# Altium footprint library MECH_MOUNTING_HOLE.PcbLib: 32 footprints (part 1 of 2)
Each footprint in its own frame and in the unit in brackets; x right, y up, seen from the top. Pads: shape width x height; smd on the part's side, far side on the other; paste and mask are expansions set on the pad; w line width, h text height; cw(c..) or ccw(c..) is an arc to the next point about the centre after c.
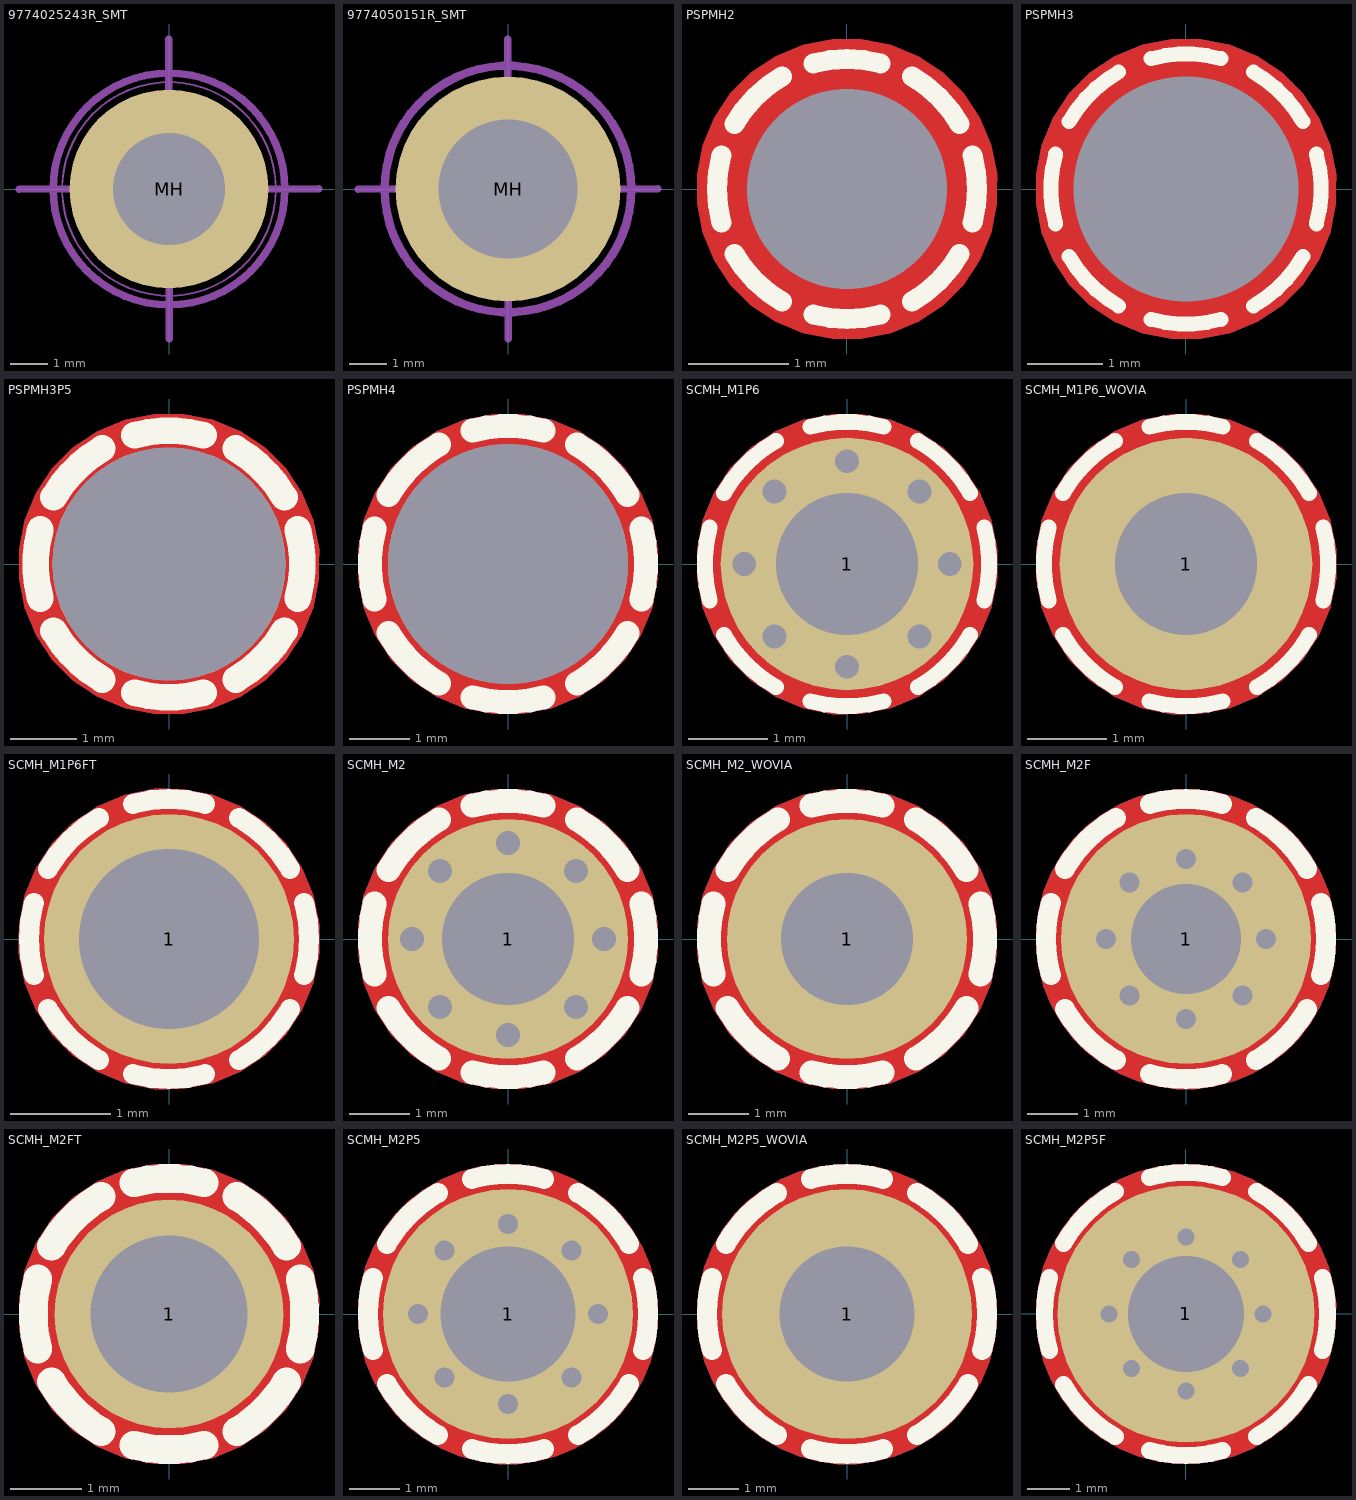
[diagram p0: the footprints below, top view; thin cyan lines are the x and y axes]

## 9774025243R_SMT [mm]
pads (1):
  round 5.3 / inner round 0 / far side round 0 hole 3 unplated: MH(0,0)
Top Paste:
  region: -2.542,0.3 -2.517,0.513 -2.397,0.924 -2.21,1.31 -1.962,1.659 -1.659,1.962 -1.31,2.21 -0.924,2.397 -0.513,2.517 -0.3,2.542 -0.3,1.521 -0.411,1.494 -0.627,1.418 -0.829,1.31 -1.012,1.174 -1.174,1.012 -1.31,0.829 -1.418,0.627 -1.494,0.411 -1.521,0.3
  region: -0.3,-2.542 -0.513,-2.517 -0.924,-2.397 -1.31,-2.21 -1.659,-1.962 -1.962,-1.659 -2.21,-1.31 -2.397,-0.924 -2.517,-0.513 -2.542,-0.3 -1.521,-0.3 -1.494,-0.411 -1.418,-0.627 -1.31,-0.829 -1.174,-1.012 -1.012,-1.174 -0.829,-1.31 -0.627,-1.418 -0.411,-1.494 -0.3,-1.521
  region: 2.542,-0.3 2.517,-0.513 2.397,-0.924 2.21,-1.31 1.962,-1.659 1.659,-1.962 1.31,-2.21 0.924,-2.397 0.513,-2.517 0.3,-2.542 0.3,-1.521 0.411,-1.494 0.627,-1.418 0.829,-1.31 1.012,-1.174 1.174,-1.012 1.31,-0.829 1.418,-0.627 1.494,-0.411 1.521,-0.3
  region: 0.3,2.542 0.513,2.517 0.924,2.397 1.31,2.21 1.659,1.962 1.962,1.659 2.21,1.31 2.397,0.924 2.517,0.513 2.542,0.3 1.521,0.3 1.494,0.411 1.418,0.627 1.31,0.829 1.174,1.012 1.012,1.174 0.829,1.31 0.627,1.418 0.411,1.494 0.3,1.521
Top Courtyard:
  circle w0.05: c0,0 r2.85
  lines w0.05: -0.5,0 0.5,0 ; 0,-0.5 0,0.5
Top 3D Body:
  circle w0.1: c0,0 r2.175
Top Assembly:
  circle w0.2: c0,0 r3.091
  lines w0.2: -4,0 4,0 ; 0,-4 0,4
Top Component Outline:
  circle w0.1: c0,0 r2.175
3D body "9774025243.stp": height 2.5, standoff -1.4, extent -2.175,-2.163 2.175,2.163

## 9774050151R_SMT [mm]
pads (1):
  round 6 / inner round 0 / far side round 0 hole 3.7 unplated: MH(0,0)
Top Paste:
  region: 0.325,2.902 0.57,2.874 1.044,2.738 1.488,2.524 1.89,2.239 2.239,1.89 2.524,1.488 2.738,1.044 2.874,0.57 2.902,0.325 1.872,0.325 1.842,0.467 1.749,0.743 1.615,1.002 1.443,1.237 1.237,1.442 1.002,1.614 0.744,1.748 0.468,1.842 0.325,1.872
  region: 2.902,-0.325 2.874,-0.57 2.738,-1.044 2.524,-1.488 2.239,-1.89 1.89,-2.239 1.488,-2.524 1.044,-2.738 0.57,-2.874 0.325,-2.902 0.325,-1.872 0.467,-1.842 0.743,-1.749 1.002,-1.615 1.237,-1.443 1.442,-1.237 1.614,-1.002 1.748,-0.744 1.842,-0.468 1.872,-0.325
  region: -0.325,-2.902 -0.57,-2.874 -1.044,-2.738 -1.488,-2.524 -1.89,-2.239 -2.239,-1.89 -2.524,-1.488 -2.738,-1.044 -2.874,-0.57 -2.902,-0.325 -1.872,-0.325 -1.842,-0.467 -1.749,-0.743 -1.615,-1.002 -1.443,-1.237 -1.237,-1.442 -1.002,-1.614 -0.744,-1.748 -0.468,-1.842 -0.325,-1.872
  region: -2.902,0.325 -2.874,0.57 -2.738,1.044 -2.524,1.488 -2.239,1.89 -1.89,2.239 -1.488,2.524 -1.044,2.738 -0.57,2.874 -0.325,2.902 -0.325,1.872 -0.467,1.842 -0.743,1.749 -1.002,1.615 -1.237,1.443 -1.442,1.237 -1.614,1.002 -1.748,0.744 -1.842,0.468 -1.872,0.325
Top Courtyard:
  circle w0.05: c0,0 r3.2
  lines w0.05: -0.5,0 0.5,0 ; 0,-0.5 0,0.5
Top 3D Body:
  circle w0.1: c0,0 r2.55
Top Assembly:
  circle w0.2: c0,0 r3.3
  lines w0.2: -4,0 4,0 ; 0,-4 0,4
Top Component Outline:
  circle w0.1: c0,0 r2.55
3D body "9774050151.stp": height 5, standoff -1.4, extent -2.55,-2.547 2.55,2.547

## PSPMH2 [mm] "Plastic Spacer mouting, Hole 2mm"
pads (1):
  round 0 hole 2 unplated mask+0.1: ""(0,0)
Top Layer:
  pour cut-out: 0,1.5 -0.148,1.5 -0.438,1.442 -0.711,1.329 -0.956,1.165 -1.165,0.956 -1.329,0.711 -1.442,0.438 -1.5,0.148 -1.5,0 -1.5,-0.148 -1.442,-0.437 -1.329,-0.71 -1.165,-0.956 -0.956,-1.165 -0.711,-1.329 -0.438,-1.442 -0.148,-1.5 0,-1.5 0.148,-1.5 0.438,-1.442 0.711,-1.329 0.956,-1.165 1.165,-0.956 1.329,-0.71 1.442,-0.437 1.5,-0.148 1.5,0 1.5,0.148 1.442,0.438 1.329,0.711 1.165,0.956 0.956,1.165 0.711,1.329 0.438,1.442 0.148,1.5
Top Overlay:
  lines w0.2: -1.256,-0.336 cw(c0,0) -1.256,0.336 ; -1.126,-0.65 ccw(c0,0) -0.65,-1.126 ; -1.126,0.65 cw(c0,0) -0.65,1.126 ; -0.336,-1.256 ccw(c0,0) 0.336,-1.256 ; -0.336,1.256 cw(c0,0) 0.336,1.256 ; 0.65,-1.126 ccw(c0,0) 1.126,-0.65 ; 0.65,1.126 cw(c0,0) 1.126,0.65 ; 1.256,-0.336 ccw(c0,0) 1.256,0.336

## PSPMH3 [mm] "Plastic Spacer mouting, Hole 3mm"
pads (1):
  round 0 hole 3 unplated mask+0.1: ""(0,0)
Top Layer:
  pour cut-out: 0,2 -0.197,2 -0.583,1.923 -0.947,1.772 -1.275,1.554 -1.554,1.275 -1.772,0.947 -1.923,0.583 -2,0.197 -2,0 -2,-0.197 -1.923,-0.583 -1.772,-0.947 -1.554,-1.275 -1.275,-1.553 -0.947,-1.772 -0.583,-1.923 -0.197,-2 0,-2 0.197,-2 0.583,-1.923 0.947,-1.772 1.275,-1.553 1.554,-1.275 1.772,-0.947 1.923,-0.583 2,-0.197 2,0 2,0.197 1.923,0.583 1.772,0.947 1.554,1.275 1.275,1.554 0.947,1.772 0.583,1.923 0.197,2
Bottom Layer:
  pour cut-out: 0,2 -0.197,2 -0.583,1.923 -0.947,1.772 -1.275,1.554 -1.554,1.275 -1.772,0.947 -1.923,0.583 -2,0.197 -2,0 -2,-0.197 -1.923,-0.583 -1.772,-0.947 -1.554,-1.275 -1.275,-1.553 -0.947,-1.772 -0.583,-1.923 -0.197,-2 0,-2 0.197,-2 0.583,-1.923 0.947,-1.772 1.275,-1.553 1.554,-1.275 1.772,-0.947 1.923,-0.583 2,-0.197 2,0 2,0.197 1.923,0.583 1.772,0.947 1.554,1.275 1.275,1.554 0.947,1.772 0.583,1.923 0.197,2
Top Overlay:
  lines w0.2: -1.739,-0.466 cw(c0,0) -1.739,0.466 ; -1.559,-0.9 ccw(c0,0) -0.9,-1.559 ; -1.559,0.9 cw(c0,0) -0.9,1.559 ; -0.466,-1.739 ccw(c0,0) 0.466,-1.739 ; -0.466,1.739 cw(c0,0) 0.466,1.739 ; 0.9,-1.559 ccw(c0,0) 1.559,-0.9 ; 0.9,1.559 cw(c0,0) 1.559,0.9 ; 1.739,-0.466 ccw(c0,0) 1.739,0.466

## PSPMH3P5 [mm] "Plastic Spacer mouting, Hole 3.5mm"
pads (1):
  round 3.5 hole 3.5 unplated mask+0.1: ""(0,0)
Top Layer:
  pour cut-out: 0,2.25 -0.222,2.25 -0.656,2.164 -1.066,1.994 -1.434,1.748 -1.748,1.434 -1.994,1.066 -2.164,0.656 -2.25,0.222 -2.25,0 -2.25,-0.222 -2.164,-0.656 -1.994,-1.066 -1.748,-1.434 -1.434,-1.748 -1.066,-1.994 -0.656,-2.164 -0.222,-2.25 0,-2.25 0.222,-2.25 0.656,-2.163 1.066,-1.994 1.434,-1.748 1.748,-1.434 1.994,-1.066 2.164,-0.656 2.25,-0.222 2.25,0 2.25,0.222 2.164,0.656 1.994,1.066 1.748,1.434 1.434,1.748 1.066,1.994 0.656,2.164 0.222,2.25
Bottom Layer:
  pour cut-out: 0,2.25 -0.222,2.25 -0.656,2.164 -1.066,1.994 -1.434,1.748 -1.748,1.434 -1.994,1.066 -2.164,0.656 -2.25,0.222 -2.25,0 -2.25,-0.222 -2.164,-0.656 -1.994,-1.066 -1.748,-1.434 -1.434,-1.748 -1.066,-1.994 -0.656,-2.164 -0.222,-2.25 0,-2.25 0.222,-2.25 0.656,-2.163 1.066,-1.994 1.434,-1.748 1.748,-1.434 1.994,-1.066 2.164,-0.656 2.25,-0.222 2.25,0 2.25,0.222 2.164,0.656 1.994,1.066 1.748,1.434 1.434,1.748 1.066,1.994 0.656,2.164 0.222,2.25
Top Overlay:
  lines w0.4: -1.932,-0.518 cw(c0,0) -1.932,0.518 ; -1.732,-1 ccw(c0,0) -1,-1.732 ; -1.732,1 cw(c0,0) -1,1.732 ; -0.518,-1.932 ccw(c0,0) 0.518,-1.932 ; -0.518,1.932 cw(c0,0) 0.518,1.932 ; 1,-1.732 ccw(c0,0) 1.732,-1 ; 1,1.732 cw(c0,0) 1.732,1 ; 1.932,-0.518 ccw(c0,0) 1.932,0.518

## PSPMH4 [mm] "Plastic Spacer mouting, Hole 4mm"
pads (1):
  round 4 hole 4 unplated mask+0.1: ""(0,0)
Top Layer:
  pour cut-out: 0,2.5 -0.246,2.5 -0.729,2.404 -1.184,2.216 -1.594,1.942 -1.942,1.594 -2.216,1.184 -2.404,0.729 -2.5,0.246 -2.5,0 -2.5,-0.246 -2.404,-0.729 -2.215,-1.184 -1.942,-1.594 -1.594,-1.942 -1.184,-2.215 -0.729,-2.404 -0.246,-2.5 0,-2.5 0.246,-2.5 0.729,-2.404 1.184,-2.215 1.594,-1.942 1.942,-1.594 2.215,-1.184 2.404,-0.729 2.5,-0.246 2.5,0 2.5,0.246 2.404,0.729 2.215,1.184 1.942,1.594 1.594,1.942 1.184,2.216 0.729,2.404 0.246,2.5
Bottom Layer:
  pour cut-out: 0,2.5 -0.246,2.5 -0.729,2.404 -1.184,2.216 -1.594,1.942 -1.942,1.594 -2.216,1.184 -2.404,0.729 -2.5,0.246 -2.5,0 -2.5,-0.246 -2.404,-0.729 -2.215,-1.184 -1.942,-1.594 -1.594,-1.942 -1.184,-2.215 -0.729,-2.404 -0.246,-2.5 0,-2.5 0.246,-2.5 0.729,-2.404 1.184,-2.215 1.594,-1.942 1.942,-1.594 2.215,-1.184 2.404,-0.729 2.5,-0.246 2.5,0 2.5,0.246 2.404,0.729 2.215,1.184 1.942,1.594 1.594,1.942 1.184,2.216 0.729,2.404 0.246,2.5
Top Overlay:
  lines w0.4: -2.222,-0.595 cw(c0,0) -2.222,0.595 ; -1.992,-1.15 ccw(c0,0) -1.15,-1.992 ; -1.992,1.15 cw(c0,0) -1.15,1.992 ; -0.595,-2.222 ccw(c0,0) 0.595,-2.222 ; -0.595,2.222 cw(c0,0) 0.595,2.222 ; 1.15,-1.992 ccw(c0,0) 1.992,-1.15 ; 1.15,1.992 cw(c0,0) 1.992,1.15 ; 2.222,-0.595 ccw(c0,0) 2.222,0.595

## SCMH_M1P6 [mm] "SCREW mouting, M1.6, 1.6mm diameter and 3.2mm PanHead"
pads (1):
  round 3.2 / inner round 2.1 / far side round 3.2 hole 1.8 mask+0.1: 1(0,0)
via 0,1.3 diameter 0.5 hole 0.3
via -0.919,0.919 diameter 0.5 hole 0.3
via -1.3,0 diameter 0.5 hole 0.3
via -0.919,-0.919 diameter 0.5 hole 0.3
via 0,-1.3 diameter 0.5 hole 0.3
via 0.919,-0.919 diameter 0.5 hole 0.3
via 1.3,0 diameter 0.5 hole 0.3
via 0.919,0.919 diameter 0.5 hole 0.3
Top Layer:
  pour cut-out: 0,1.9 0.187,1.9 0.554,1.827 0.9,1.684 1.211,1.476 1.476,1.211 1.684,0.9 1.827,0.554 1.9,0.187 1.9,0 1.9,-0.187 1.827,-0.554 1.684,-0.9 1.476,-1.211 1.211,-1.476 0.9,-1.684 0.554,-1.827 0.187,-1.9 0,-1.9 -0.187,-1.9 -0.554,-1.827 -0.9,-1.684 -1.211,-1.476 -1.476,-1.211 -1.684,-0.9 -1.827,-0.554 -1.9,-0.187 -1.9,0 -1.9,0.187 -1.827,0.554 -1.684,0.9 -1.476,1.211 -1.211,1.476 -0.9,1.684 -0.554,1.827 -0.187,1.9
Bottom Layer:
  pour cut-out: 0,1.9 0.187,1.9 0.554,1.827 0.9,1.684 1.211,1.476 1.476,1.211 1.684,0.9 1.827,0.554 1.9,0.187 1.9,0 1.9,-0.187 1.827,-0.554 1.684,-0.9 1.476,-1.211 1.211,-1.476 0.9,-1.684 0.554,-1.827 0.187,-1.9 0,-1.9 -0.187,-1.9 -0.554,-1.827 -0.9,-1.684 -1.211,-1.476 -1.476,-1.211 -1.684,-0.9 -1.827,-0.554 -1.9,-0.187 -1.9,0 -1.9,0.187 -1.827,0.554 -1.684,0.9 -1.476,1.211 -1.211,1.476 -0.9,1.684 -0.554,1.827 -0.187,1.9
Top Overlay:
  lines w0.2: -1.739,-0.466 cw(c0,0) -1.739,0.466 ; -1.559,-0.9 ccw(c0,0) -0.9,-1.559 ; -1.559,0.9 cw(c0,0) -0.9,1.559 ; -0.466,-1.739 ccw(c0,0) 0.466,-1.739 ; -0.466,1.739 cw(c0,0) 0.466,1.739 ; 0.9,-1.559 ccw(c0,0) 1.559,-0.9 ; 0.9,1.559 cw(c0,0) 1.559,0.9 ; 1.739,-0.466 ccw(c0,0) 1.739,0.466

## SCMH_M1P6_WOVIA [mm] "SCREW mouting, M1.6, 1.6mm diameter and 3.2mm PanHead"
pads (1):
  round 3.2 / inner round 2.1 / far side round 3.2 hole 1.8 mask+0.1: 1(0,0)
Top Layer:
  pour cut-out: 0,1.9 0.187,1.9 0.554,1.827 0.9,1.684 1.211,1.476 1.476,1.211 1.684,0.9 1.827,0.554 1.9,0.187 1.9,0 1.9,-0.187 1.827,-0.554 1.684,-0.9 1.476,-1.211 1.211,-1.476 0.9,-1.684 0.554,-1.827 0.187,-1.9 0,-1.9 -0.187,-1.9 -0.554,-1.827 -0.9,-1.684 -1.211,-1.476 -1.476,-1.211 -1.684,-0.9 -1.827,-0.554 -1.9,-0.187 -1.9,0 -1.9,0.187 -1.827,0.554 -1.684,0.9 -1.476,1.211 -1.211,1.476 -0.9,1.684 -0.554,1.827 -0.187,1.9
Bottom Layer:
  pour cut-out: 0,1.9 0.187,1.9 0.554,1.827 0.9,1.684 1.211,1.476 1.476,1.211 1.684,0.9 1.827,0.554 1.9,0.187 1.9,0 1.9,-0.187 1.827,-0.554 1.684,-0.9 1.476,-1.211 1.211,-1.476 0.9,-1.684 0.554,-1.827 0.187,-1.9 0,-1.9 -0.187,-1.9 -0.554,-1.827 -0.9,-1.684 -1.211,-1.476 -1.476,-1.211 -1.684,-0.9 -1.827,-0.554 -1.9,-0.187 -1.9,0 -1.9,0.187 -1.827,0.554 -1.684,0.9 -1.476,1.211 -1.211,1.476 -0.9,1.684 -0.554,1.827 -0.187,1.9
Top Overlay:
  lines w0.2: -1.739,-0.466 cw(c0,0) -1.739,0.466 ; -1.559,-0.9 ccw(c0,0) -0.9,-1.559 ; -1.559,0.9 cw(c0,0) -0.9,1.559 ; -0.466,-1.739 ccw(c0,0) 0.466,-1.739 ; -0.466,1.739 cw(c0,0) 0.466,1.739 ; 0.9,-1.559 ccw(c0,0) 1.559,-0.9 ; 0.9,1.559 cw(c0,0) 1.559,0.9 ; 1.739,-0.466 ccw(c0,0) 1.739,0.466

## SCMH_M1P6FT [mm] "SCREW mouting, M1.6, 1.6mm diameter and 2.5mm, FlatHead"
pads (1):
  round 2.5 / inner round 2.1 / far side round 2.5 hole 1.8 mask+0.1: 1(0,0)
Top Layer:
  pour cut-out: 0,1.5 0.148,1.5 0.438,1.442 0.711,1.329 0.956,1.165 1.165,0.956 1.329,0.711 1.442,0.438 1.5,0.148 1.5,0 1.5,-0.148 1.442,-0.438 1.329,-0.711 1.165,-0.956 0.956,-1.165 0.711,-1.329 0.438,-1.442 0.148,-1.5 0,-1.5 -0.148,-1.5 -0.438,-1.442 -0.711,-1.329 -0.956,-1.165 -1.165,-0.956 -1.329,-0.711 -1.442,-0.438 -1.5,-0.148 -1.5,0 -1.5,0.148 -1.442,0.438 -1.329,0.711 -1.165,0.956 -0.956,1.165 -0.711,1.329 -0.438,1.442 -0.148,1.5
Bottom Layer:
  pour cut-out: 0,1.5 0.148,1.5 0.438,1.442 0.711,1.329 0.956,1.165 1.165,0.956 1.329,0.711 1.442,0.438 1.5,0.148 1.5,0 1.5,-0.148 1.442,-0.438 1.329,-0.711 1.165,-0.956 0.956,-1.165 0.711,-1.329 0.438,-1.442 0.148,-1.5 0,-1.5 -0.148,-1.5 -0.438,-1.442 -0.711,-1.329 -0.956,-1.165 -1.165,-0.956 -1.329,-0.711 -1.442,-0.438 -1.5,-0.148 -1.5,0 -1.5,0.148 -1.442,0.438 -1.329,0.711 -1.165,0.956 -0.956,1.165 -0.711,1.329 -0.438,1.442 -0.148,1.5
Top Overlay:
  lines w0.2: -1.352,-0.362 cw(c0,0) -1.352,0.362 ; -1.212,-0.7 ccw(c0,0) -0.7,-1.212 ; -1.212,0.7 cw(c0,0) -0.7,1.212 ; -0.362,-1.352 ccw(c0,0) 0.362,-1.352 ; -0.362,1.352 cw(c0,0) 0.362,1.352 ; 0.7,-1.212 ccw(c0,0) 1.212,-0.7 ; 0.7,1.212 cw(c0,0) 1.212,0.7 ; 1.352,-0.362 ccw(c0,0) 1.352,0.362

## SCMH_M2 [mm] "SCREW mouting, M2, 2.0mm diameter and 4.0mm PanHead"
pads (1):
  round 4 / inner round 2.5 / far side round 4 hole 2.2 mask+0.1: 1(0,0)
via 0,-1.6 diameter 0.6 hole 0.4
via 0,1.6 diameter 0.6 hole 0.4
via -1.131,1.131 diameter 0.6 hole 0.4
via 1.131,-1.131 diameter 0.6 hole 0.4
via -1.6,0 diameter 0.6 hole 0.4
via 1.6,0 diameter 0.6 hole 0.4
via -1.131,-1.131 diameter 0.6 hole 0.4
via 1.131,1.131 diameter 0.6 hole 0.4
Top Layer:
  pour cut-out: 0,2.5 -0.246,2.5 -0.729,2.404 -1.184,2.216 -1.594,1.942 -1.942,1.594 -2.216,1.184 -2.404,0.729 -2.5,0.246 -2.5,0 -2.5,-0.246 -2.404,-0.729 -2.215,-1.184 -1.942,-1.594 -1.594,-1.942 -1.184,-2.215 -0.729,-2.404 -0.246,-2.5 0,-2.5 0.246,-2.5 0.729,-2.404 1.184,-2.215 1.594,-1.942 1.942,-1.594 2.215,-1.184 2.404,-0.729 2.5,-0.246 2.5,0 2.5,0.246 2.404,0.729 2.215,1.184 1.942,1.594 1.594,1.942 1.184,2.216 0.729,2.404 0.246,2.5
Bottom Layer:
  pour cut-out: 0,2.5 -0.246,2.5 -0.729,2.404 -1.184,2.216 -1.594,1.942 -1.942,1.594 -2.216,1.184 -2.404,0.729 -2.5,0.246 -2.5,0 -2.5,-0.246 -2.404,-0.729 -2.215,-1.184 -1.942,-1.594 -1.594,-1.942 -1.184,-2.215 -0.729,-2.404 -0.246,-2.5 0,-2.5 0.246,-2.5 0.729,-2.404 1.184,-2.215 1.594,-1.942 1.942,-1.594 2.215,-1.184 2.404,-0.729 2.5,-0.246 2.5,0 2.5,0.246 2.404,0.729 2.215,1.184 1.942,1.594 1.594,1.942 1.184,2.216 0.729,2.404 0.246,2.5
Top Overlay:
  lines w0.4: -2.222,-0.595 cw(c0,0) -2.222,0.595 ; -1.992,-1.15 ccw(c0,0) -1.15,-1.992 ; -1.992,1.15 cw(c0,0) -1.15,1.992 ; -0.595,-2.222 ccw(c0,0) 0.595,-2.222 ; -0.595,2.222 cw(c0,0) 0.595,2.222 ; 1.15,-1.992 ccw(c0,0) 1.992,-1.15 ; 1.15,1.992 cw(c0,0) 1.992,1.15 ; 2.222,-0.595 ccw(c0,0) 2.222,0.595

## SCMH_M2_WOVIA [mm] "SCREW mouting, M2, 2.0mm diameter and 4.0mm PanHead"
pads (1):
  round 4 / inner round 2.5 / far side round 4 hole 2.2 mask+0.1: 1(0,0)
Top Layer:
  pour cut-out: 0,2.5 -0.246,2.5 -0.729,2.404 -1.184,2.216 -1.594,1.942 -1.942,1.594 -2.216,1.184 -2.404,0.729 -2.5,0.246 -2.5,0 -2.5,-0.246 -2.404,-0.729 -2.215,-1.184 -1.942,-1.594 -1.594,-1.942 -1.184,-2.215 -0.729,-2.404 -0.246,-2.5 0,-2.5 0.246,-2.5 0.729,-2.404 1.184,-2.215 1.594,-1.942 1.942,-1.594 2.215,-1.184 2.404,-0.729 2.5,-0.246 2.5,0 2.5,0.246 2.404,0.729 2.215,1.184 1.942,1.594 1.594,1.942 1.184,2.216 0.729,2.404 0.246,2.5
Bottom Layer:
  pour cut-out: 0,2.5 -0.246,2.5 -0.729,2.404 -1.184,2.216 -1.594,1.942 -1.942,1.594 -2.216,1.184 -2.404,0.729 -2.5,0.246 -2.5,0 -2.5,-0.246 -2.404,-0.729 -2.215,-1.184 -1.942,-1.594 -1.594,-1.942 -1.184,-2.215 -0.729,-2.404 -0.246,-2.5 0,-2.5 0.246,-2.5 0.729,-2.404 1.184,-2.215 1.594,-1.942 1.942,-1.594 2.215,-1.184 2.404,-0.729 2.5,-0.246 2.5,0 2.5,0.246 2.404,0.729 2.215,1.184 1.942,1.594 1.594,1.942 1.184,2.216 0.729,2.404 0.246,2.5
Top Overlay:
  lines w0.4: -2.222,-0.595 cw(c0,0) -2.222,0.595 ; -1.992,-1.15 ccw(c0,0) -1.15,-1.992 ; -1.992,1.15 cw(c0,0) -1.15,1.992 ; -0.595,-2.222 ccw(c0,0) 0.595,-2.222 ; -0.595,2.222 cw(c0,0) 0.595,2.222 ; 1.15,-1.992 ccw(c0,0) 1.992,-1.15 ; 1.15,1.992 cw(c0,0) 1.992,1.15 ; 2.222,-0.595 ccw(c0,0) 2.222,0.595

## SCMH_M2F [mm] "SCREW mouting, M2, 2.0mm diameter and 5.0mm FlangeHead"
pads (1):
  round 5 / inner round 2.5 / far side round 5 hole 2.2 mask+0.1: 1(0,0)
via 1.131,1.131 diameter 0.6 hole 0.4
via -1.131,-1.131 diameter 0.6 hole 0.4
via 1.6,0 diameter 0.6 hole 0.4
via -1.6,0 diameter 0.6 hole 0.4
via 1.131,-1.131 diameter 0.6 hole 0.4
via -1.131,1.131 diameter 0.6 hole 0.4
via 0,1.6 diameter 0.6 hole 0.4
via 0,-1.6 diameter 0.6 hole 0.4
Top Layer:
  pour cut-out: 0,3 -0.197,3 -0.587,2.949 -0.966,2.847 -1.33,2.696 -1.67,2.5 -1.982,2.26 -2.26,1.982 -2.5,1.67 -2.696,1.33 -2.847,0.966 -2.949,0.587 -3,0.197 -3,0 -3,-0.197 -2.949,-0.586 -2.847,-0.966 -2.696,-1.33 -2.5,-1.67 -2.26,-1.982 -1.982,-2.26 -1.67,-2.5 -1.33,-2.696 -0.966,-2.847 -0.587,-2.949 -0.197,-3 0,-3 0.197,-3 0.586,-2.949 0.966,-2.847 1.33,-2.696 1.67,-2.5 1.982,-2.26 2.26,-1.982 2.5,-1.67 2.696,-1.33 2.847,-0.966 2.949,-0.587 3,-0.197 3,0 3,0.197 2.949,0.587 2.847,0.966 2.696,1.33 2.5,1.67 2.26,1.982 1.982,2.26 1.67,2.5 1.33,2.696 0.966,2.847 0.587,2.949 0.197,3
Bottom Layer:
  pour cut-out: 0,3 -0.197,3 -0.587,2.949 -0.966,2.847 -1.33,2.696 -1.67,2.5 -1.982,2.26 -2.26,1.982 -2.5,1.67 -2.696,1.33 -2.847,0.966 -2.949,0.587 -3,0.197 -3,0 -3,-0.197 -2.949,-0.586 -2.847,-0.966 -2.696,-1.33 -2.5,-1.67 -2.26,-1.982 -1.982,-2.26 -1.67,-2.5 -1.33,-2.696 -0.966,-2.847 -0.587,-2.949 -0.197,-3 0,-3 0.197,-3 0.586,-2.949 0.966,-2.847 1.33,-2.696 1.67,-2.5 1.982,-2.26 2.26,-1.982 2.5,-1.67 2.696,-1.33 2.847,-0.966 2.949,-0.587 3,-0.197 3,0 3,0.197 2.949,0.587 2.847,0.966 2.696,1.33 2.5,1.67 2.26,1.982 1.982,2.26 1.67,2.5 1.33,2.696 0.966,2.847 0.587,2.949 0.197,3
Top Overlay:
  lines w0.4: -2.705,-0.725 cw(c0,0) -2.705,0.725 ; -2.425,-1.4 ccw(c0,0) -1.4,-2.425 ; -2.425,1.4 cw(c0,0) -1.4,2.425 ; -0.725,-2.705 ccw(c0,0) 0.725,-2.705 ; -0.725,2.705 cw(c0,0) 0.725,2.705 ; 1.4,-2.425 ccw(c0,0) 2.425,-1.4 ; 1.4,2.425 cw(c0,0) 2.425,1.4 ; 2.705,-0.725 ccw(c0,0) 2.705,0.725

## SCMH_M2FT [mm] "SCREW mouting, M2, 2.0mm diameter and 3.2mm, FlatHead"
pads (1):
  round 3.2 / inner round 2.5 / far side round 3.2 hole 2.2 mask+0.1: 1(0,0)
Top Layer:
  pour cut-out: 0,2.1 -0.207,2.1 -0.613,2.019 -0.995,1.861 -1.339,1.631 -1.631,1.339 -1.861,0.995 -2.019,0.613 -2.1,0.207 -2.1,0 -2.1,-0.207 -2.019,-0.613 -1.861,-0.995 -1.631,-1.339 -1.339,-1.631 -0.995,-1.861 -0.613,-2.019 -0.207,-2.1 0,-2.1 0.207,-2.1 0.613,-2.019 0.995,-1.861 1.339,-1.631 1.631,-1.339 1.861,-0.995 2.019,-0.612 2.1,-0.207 2.1,0 2.1,0.207 2.019,0.613 1.861,0.995 1.631,1.339 1.339,1.631 0.995,1.861 0.613,2.019 0.207,2.1
Bottom Layer:
  pour cut-out: 0,2.1 -0.207,2.1 -0.613,2.019 -0.995,1.861 -1.339,1.631 -1.631,1.339 -1.861,0.995 -2.019,0.613 -2.1,0.207 -2.1,0 -2.1,-0.207 -2.019,-0.613 -1.861,-0.995 -1.631,-1.339 -1.339,-1.631 -0.995,-1.861 -0.613,-2.019 -0.207,-2.1 0,-2.1 0.207,-2.1 0.613,-2.019 0.995,-1.861 1.339,-1.631 1.631,-1.339 1.861,-0.995 2.019,-0.612 2.1,-0.207 2.1,0 2.1,0.207 2.019,0.613 1.861,0.995 1.631,1.339 1.339,1.631 0.995,1.861 0.613,2.019 0.207,2.1
Top Overlay:
  lines w0.4: -1.835,-0.492 cw(c0,0) -1.835,0.492 ; -1.645,-0.95 ccw(c0,0) -0.95,-1.645 ; -1.645,0.95 cw(c0,0) -0.95,1.645 ; -0.492,-1.835 ccw(c0,0) 0.492,-1.835 ; -0.492,1.835 cw(c0,0) 0.492,1.835 ; 0.95,-1.645 ccw(c0,0) 1.645,-0.95 ; 0.95,1.645 cw(c0,0) 1.645,0.95 ; 1.835,-0.492 ccw(c0,0) 1.835,0.492

## SCMH_M2P5 [mm] "SCREW mouting, M2.5, 2.5mm diameter and 5.0mm PanHead"
pads (1):
  round 5 / inner round 3 / far side round 5 hole 2.7 mask+0.1: 1(0,0)
via -1.273,-1.273 diameter 0.6 hole 0.4
via 1.273,1.273 diameter 0.6 hole 0.4
via -1.8,0 diameter 0.6 hole 0.4
via 1.8,0 diameter 0.6 hole 0.4
via -1.273,1.273 diameter 0.6 hole 0.4
via 1.273,-1.273 diameter 0.6 hole 0.4
via 0,-1.8 diameter 0.6 hole 0.4
via 0,1.8 diameter 0.6 hole 0.4
Top Layer:
  pour cut-out: 0,3 -0.197,3 -0.587,2.949 -0.966,2.847 -1.33,2.696 -1.67,2.5 -1.982,2.26 -2.26,1.982 -2.5,1.67 -2.696,1.33 -2.847,0.966 -2.949,0.587 -3,0.197 -3,0 -3,-0.197 -2.949,-0.586 -2.847,-0.966 -2.696,-1.33 -2.5,-1.67 -2.26,-1.982 -1.982,-2.26 -1.67,-2.5 -1.33,-2.696 -0.966,-2.847 -0.587,-2.949 -0.197,-3 0,-3 0.197,-3 0.586,-2.949 0.966,-2.847 1.33,-2.696 1.67,-2.5 1.982,-2.26 2.26,-1.982 2.5,-1.67 2.696,-1.33 2.847,-0.966 2.949,-0.587 3,-0.197 3,0 3,0.197 2.949,0.587 2.847,0.966 2.696,1.33 2.5,1.67 2.26,1.982 1.982,2.26 1.67,2.5 1.33,2.696 0.966,2.847 0.587,2.949 0.197,3
Bottom Layer:
  pour cut-out: 0,3 -0.197,3 -0.587,2.949 -0.966,2.847 -1.33,2.696 -1.67,2.5 -1.982,2.26 -2.26,1.982 -2.5,1.67 -2.696,1.33 -2.847,0.966 -2.949,0.587 -3,0.197 -3,0 -3,-0.197 -2.949,-0.586 -2.847,-0.966 -2.696,-1.33 -2.5,-1.67 -2.26,-1.982 -1.982,-2.26 -1.67,-2.5 -1.33,-2.696 -0.966,-2.847 -0.587,-2.949 -0.197,-3 0,-3 0.197,-3 0.586,-2.949 0.966,-2.847 1.33,-2.696 1.67,-2.5 1.982,-2.26 2.26,-1.982 2.5,-1.67 2.696,-1.33 2.847,-0.966 2.949,-0.587 3,-0.197 3,0 3,0.197 2.949,0.587 2.847,0.966 2.696,1.33 2.5,1.67 2.26,1.982 1.982,2.26 1.67,2.5 1.33,2.696 0.966,2.847 0.587,2.949 0.197,3
Top Overlay:
  lines w0.4: -2.705,-0.725 cw(c0,0) -2.705,0.725 ; -2.425,-1.4 ccw(c0,0) -1.4,-2.425 ; -2.425,1.4 cw(c0,0) -1.4,2.425 ; -0.725,-2.705 ccw(c0,0) 0.725,-2.705 ; -0.725,2.705 cw(c0,0) 0.725,2.705 ; 1.4,-2.425 ccw(c0,0) 2.425,-1.4 ; 1.4,2.425 cw(c0,0) 2.425,1.4 ; 2.705,-0.725 ccw(c0,0) 2.705,0.725

## SCMH_M2P5_WOVIA [mm] "SCREW mouting, M2.5, 2.5mm diameter and 5.0mm PanHead"
pads (1):
  round 5 / inner round 3 / far side round 5 hole 2.7 mask+0.1: 1(0,0)
Top Layer:
  pour cut-out: 0,3 -0.197,3 -0.587,2.949 -0.966,2.847 -1.33,2.696 -1.67,2.5 -1.982,2.26 -2.26,1.982 -2.5,1.67 -2.696,1.33 -2.847,0.966 -2.949,0.587 -3,0.197 -3,0 -3,-0.197 -2.949,-0.586 -2.847,-0.966 -2.696,-1.33 -2.5,-1.67 -2.26,-1.982 -1.982,-2.26 -1.67,-2.5 -1.33,-2.696 -0.966,-2.847 -0.587,-2.949 -0.197,-3 0,-3 0.197,-3 0.586,-2.949 0.966,-2.847 1.33,-2.696 1.67,-2.5 1.982,-2.26 2.26,-1.982 2.5,-1.67 2.696,-1.33 2.847,-0.966 2.949,-0.587 3,-0.197 3,0 3,0.197 2.949,0.587 2.847,0.966 2.696,1.33 2.5,1.67 2.26,1.982 1.982,2.26 1.67,2.5 1.33,2.696 0.966,2.847 0.587,2.949 0.197,3
Bottom Layer:
  pour cut-out: 0,3 -0.197,3 -0.587,2.949 -0.966,2.847 -1.33,2.696 -1.67,2.5 -1.982,2.26 -2.26,1.982 -2.5,1.67 -2.696,1.33 -2.847,0.966 -2.949,0.587 -3,0.197 -3,0 -3,-0.197 -2.949,-0.586 -2.847,-0.966 -2.696,-1.33 -2.5,-1.67 -2.26,-1.982 -1.982,-2.26 -1.67,-2.5 -1.33,-2.696 -0.966,-2.847 -0.587,-2.949 -0.197,-3 0,-3 0.197,-3 0.586,-2.949 0.966,-2.847 1.33,-2.696 1.67,-2.5 1.982,-2.26 2.26,-1.982 2.5,-1.67 2.696,-1.33 2.847,-0.966 2.949,-0.587 3,-0.197 3,0 3,0.197 2.949,0.587 2.847,0.966 2.696,1.33 2.5,1.67 2.26,1.982 1.982,2.26 1.67,2.5 1.33,2.696 0.966,2.847 0.587,2.949 0.197,3
Top Overlay:
  lines w0.4: -2.705,-0.725 cw(c0,0) -2.705,0.725 ; -2.425,-1.4 ccw(c0,0) -1.4,-2.425 ; -2.425,1.4 cw(c0,0) -1.4,2.425 ; -0.725,-2.705 ccw(c0,0) 0.725,-2.705 ; -0.725,2.705 cw(c0,0) 0.725,2.705 ; 1.4,-2.425 ccw(c0,0) 2.425,-1.4 ; 1.4,2.425 cw(c0,0) 2.425,1.4 ; 2.705,-0.725 ccw(c0,0) 2.705,0.725

## SCMH_M2P5F [mm] "SCREW mouting, M2.5, 2.5mm diameter and 6.0mm FlangeHead"
pads (1):
  round 6 / inner round 3 / far side round 6 hole 2.7 mask+0.1: 1(0,0)
via -1.273,-1.273 diameter 0.6 hole 0.4
via 1.273,1.273 diameter 0.6 hole 0.4
via -1.8,0 diameter 0.6 hole 0.4
via 1.8,0 diameter 0.6 hole 0.4
via -1.273,1.273 diameter 0.6 hole 0.4
via 1.273,-1.273 diameter 0.6 hole 0.4
via 0,-1.8 diameter 0.6 hole 0.4
via 0,1.8 diameter 0.6 hole 0.4
Top Layer:
  pour cut-out: 0,3.5 -0.229,3.5 -0.684,3.44 -1.127,3.321 -1.551,3.146 -1.949,2.916 -2.313,2.637 -2.637,2.313 -2.916,1.949 -3.146,1.551 -3.321,1.127 -3.44,0.684 -3.5,0.229 -3.5,0 -3.5,-0.229 -3.44,-0.684 -3.321,-1.127 -3.146,-1.551 -2.916,-1.949 -2.637,-2.313 -2.313,-2.637 -1.949,-2.916 -1.551,-3.146 -1.127,-3.321 -0.684,-3.44 -0.229,-3.5 0,-3.5 0.229,-3.5 0.684,-3.44 1.127,-3.321 1.551,-3.146 1.949,-2.916 2.313,-2.637 2.637,-2.313 2.916,-1.949 3.146,-1.551 3.321,-1.127 3.44,-0.684 3.5,-0.229 3.5,0 3.5,0.229 3.44,0.684 3.321,1.127 3.146,1.551 2.916,1.949 2.637,2.313 2.313,2.637 1.949,2.916 1.551,3.146 1.127,3.321 0.684,3.44 0.229,3.5
Bottom Layer:
  pour cut-out: 0,3.5 -0.229,3.5 -0.684,3.44 -1.127,3.321 -1.551,3.146 -1.949,2.916 -2.313,2.637 -2.637,2.313 -2.916,1.949 -3.146,1.551 -3.321,1.127 -3.44,0.684 -3.5,0.229 -3.5,0 -3.5,-0.229 -3.44,-0.684 -3.321,-1.127 -3.146,-1.551 -2.916,-1.949 -2.637,-2.313 -2.313,-2.637 -1.949,-2.916 -1.551,-3.146 -1.127,-3.321 -0.684,-3.44 -0.229,-3.5 0,-3.5 0.229,-3.5 0.684,-3.44 1.127,-3.321 1.551,-3.146 1.949,-2.916 2.313,-2.637 2.637,-2.313 2.916,-1.949 3.146,-1.551 3.321,-1.127 3.44,-0.684 3.5,-0.229 3.5,0 3.5,0.229 3.44,0.684 3.321,1.127 3.146,1.551 2.916,1.949 2.637,2.313 2.313,2.637 1.949,2.916 1.551,3.146 1.127,3.321 0.684,3.44 0.229,3.5
Top Overlay:
  lines w0.4: -3.188,-0.854 cw(c0,0) -3.188,0.854 ; -2.858,-1.65 ccw(c0,0) -1.65,-2.858 ; -2.858,1.65 cw(c0,0) -1.65,2.858 ; -0.854,-3.188 ccw(c0,0) 0.854,-3.188 ; -0.854,3.188 cw(c0,0) 0.854,3.188 ; 1.65,-2.858 ccw(c0,0) 2.858,-1.65 ; 1.65,2.858 cw(c0,0) 2.858,1.65 ; 3.188,-0.854 ccw(c0,0) 3.188,0.854